# EAGLE library part SWITCHING_REG (library r_cubed)
RT7259 1028-1199-1-ND
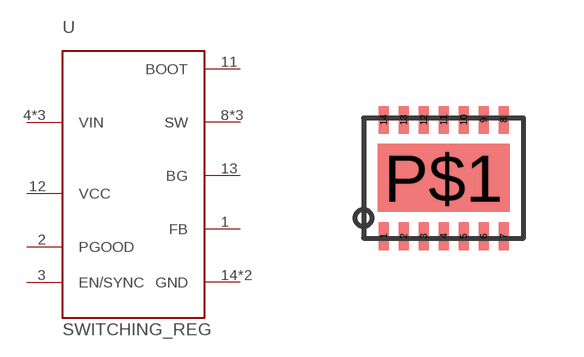
[diagram p0: symbol with the pads of WDFN-14L; footprint WDFN-14L]

Designator prefix U

## SWITCHING_REG  [WDFN-14L]
1  FB
2  PGOOD
3  EN/SYNC
4  VIN
5  VIN
6  VIN
8  SW
9  SW
10  SW
11  BOOT
12  VCC
13  BG
14  GND
P$1  GND

## Footprint WDFN-14L (pad centres in mm)
smd 0.25 x 0.7: 1 -1.5,-1.45; 2 -1,-1.45; 3 -0.5,-1.45; 4 0,-1.45; 5 0.5,-1.45; 6 1,-1.45; 7 1.5,-1.45; 8 1.5,1.45; 9 1,1.45; 10 0.5,1.45; 11 0,1.45; 12 -0.5,1.45; 13 -1,1.45; 14 -1.5,1.45
smd 3.3 x 1.7: P$1 0,0